# Altium integrated library BQ29200DRBT.IntLib: 1 symbol
Pins are listed as number, name and electrical type; pins without a type are passive.

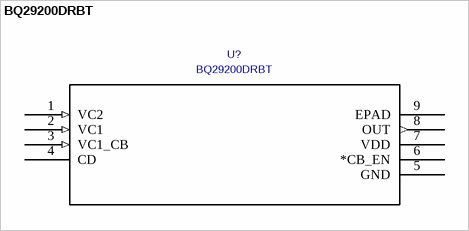
[diagram p0: symbol BQ29200DRBT]

## BQ29200DRBT
designator U?
Manufacturer: Texas Instruments; C: Copyright (C) 2015 Accelerated Designs. All rights reserved; Built_By: EMA_UL_Team; Value: BQ29200DRBT; Vendor: Vendor; Manufacturer_Part_Number: BQ29200DRBT
footprint DRB8_1P6X2P4
pins: 1 VC2 (in), 2 VC1 (in), 3 VC1_CB (in), 4 CD, 5 GND (power), 6 *CB_EN, 7 VDD (power), 8 OUT (out), 9 EPAD (power)